# Altium schematic symbol library HEADER_1x5.SchLib: 1 symbol
Pins are listed as number, name and electrical type; pins without a type are passive.

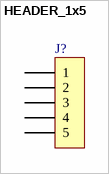
[diagram p0: symbol HEADER_1x5]

## HEADER_1x5
designator J?
pins: 1, 2, 3, 4, 5